# EAGLE library part CARD-EDGE (library Samtec MEC1 - Card Edge Connector)
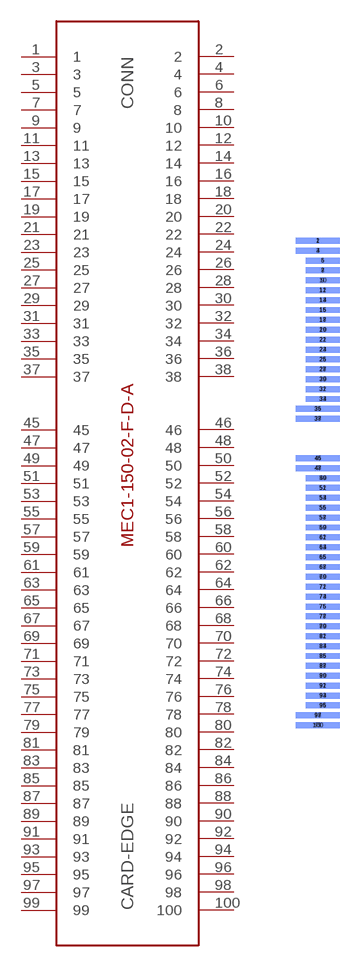
[diagram p1: symbol with the pads of SMD; footprint SMD]

Designator prefix CONN

## CARD-EDGE  [SMD]
1  1  pas
2  2  pas
3  3  pas
4  4  pas
5  5  pas
6  6  pas
7  7  pas
8  8  pas
9  9  pas
10  10  pas
11  11  pas
12  12  pas
13  13  pas
14  14  pas
15  15  pas
16  16  pas
17  17  pas
18  18  pas
19  19  pas
20  20  pas
21  21  pas
22  22  pas
23  23  pas
24  24  pas
25  25  pas
26  26  pas
27  27  pas
28  28  pas
29  29  pas
30  30  pas
31  31  pas
32  32  pas
33  33  pas
34  34  pas
35  35  pas
36  36  pas
37  37  pas
38  38  pas
45  45  pas
46  46  pas
47  47  pas
48  48  pas
49  49  pas
50  50  pas
51  51  pas
52  52  pas
53  53  pas
54  54  pas
55  55  pas
56  56  pas
57  57  pas
58  58  pas
59  59  pas
60  60  pas
61  61  pas
62  62  pas
63  63  pas
64  64  pas
65  65  pas
66  66  pas
67  67  pas
68  68  pas
69  69  pas
70  70  pas
71  71  pas
72  72  pas
73  73  pas
74  74  pas
75  75  pas
76  76  pas
77  77  pas
78  78  pas
79  79  pas
80  80  pas
81  81  pas
82  82  pas
83  83  pas
84  84  pas
85  85  pas
86  86  pas
87  87  pas
88  88  pas
89  89  pas
90  90  pas
91  91  pas
92  92  pas
93  93  pas
94  94  pas
95  95  pas
96  96  pas
97  97  pas
98  98  pas
99  99  pas
100  100  pas

## Footprint SMD (pad centres in mm)
smd 4.45 x 0.6: 1 0,24.5; 3 0,23.5; 35 0,7.5; 37 0,6.5; 45 0,2.5; 47 0,1.5; 97 0,-23.5; 99 0,-24.5
smd 4.45 x 0.6 bottom: 2 0,24.5; 4 0,23.5; 36 0,7.5; 38 0,6.5; 46 0,2.5; 48 0,1.5; 98 0,-23.5; 100 0,-24.5
smd 3.45 x 0.6: 5 0.5,22.5; 7 0.5,21.5; 9 0.5,20.5; 11 0.5,19.5; 13 0.5,18.5; 15 0.5,17.5; 17 0.5,16.5; 19 0.5,15.5; 21 0.5,14.5; 23 0.5,13.5; 25 0.5,12.5; 27 0.5,11.5; 29 0.5,10.5; 31 0.5,9.5; 33 0.5,8.5; 49 0.5,0.5; 51 0.5,-0.5; 53 0.5,-1.5; 55 0.5,-2.5; 57 0.5,-3.5; 59 0.5,-4.5; 61 0.5,-5.5; 63 0.5,-6.5; 65 0.5,-7.5; 67 0.5,-8.5; 69 0.5,-9.5; 71 0.5,-10.5; 73 0.5,-11.5; 75 0.5,-12.5; 77 0.5,-13.5; 79 0.5,-14.5; 81 0.5,-15.5; 83 0.5,-16.5; 85 0.5,-17.5; 87 0.5,-18.5; 89 0.5,-19.5; 91 0.5,-20.5; 93 0.5,-21.5; 95 0.5,-22.5
smd 3.45 x 0.6 bottom: 6 0.5,22.5; 8 0.5,21.5; 10 0.5,20.5; 12 0.5,19.5; 14 0.5,18.5; 16 0.5,17.5; 18 0.5,16.5; 20 0.5,15.5; 22 0.5,14.5; 24 0.5,13.5; 26 0.5,12.5; 28 0.5,11.5; 30 0.5,10.5; 32 0.5,9.5; 34 0.5,8.5; 50 0.5,0.5; 52 0.5,-0.5; 54 0.5,-1.5; 56 0.5,-2.5; 58 0.5,-3.5; 60 0.5,-4.5; 62 0.5,-5.5; 64 0.5,-6.5; 66 0.5,-7.5; 68 0.5,-8.5; 70 0.5,-9.5; 72 0.5,-10.5; 74 0.5,-11.5; 76 0.5,-12.5; 78 0.5,-13.5; 80 0.5,-14.5; 82 0.5,-15.5; 84 0.5,-16.5; 86 0.5,-17.5; 88 0.5,-18.5; 90 0.5,-19.5; 92 0.5,-20.5; 94 0.5,-21.5; 96 0.5,-22.5